# Altium footprint library pedals-potentiometers.PCBLIB: 58 footprints (part 1 of 4)
Each footprint in its own frame and in the unit in brackets; x right, y up, seen from the top. Pads: shape width x height; smd on the part's side, far side on the other; paste and mask are expansions set on the pad; w line width, h text height; cw(c..) or ccw(c..) is an arc to the next point about the centre after c.
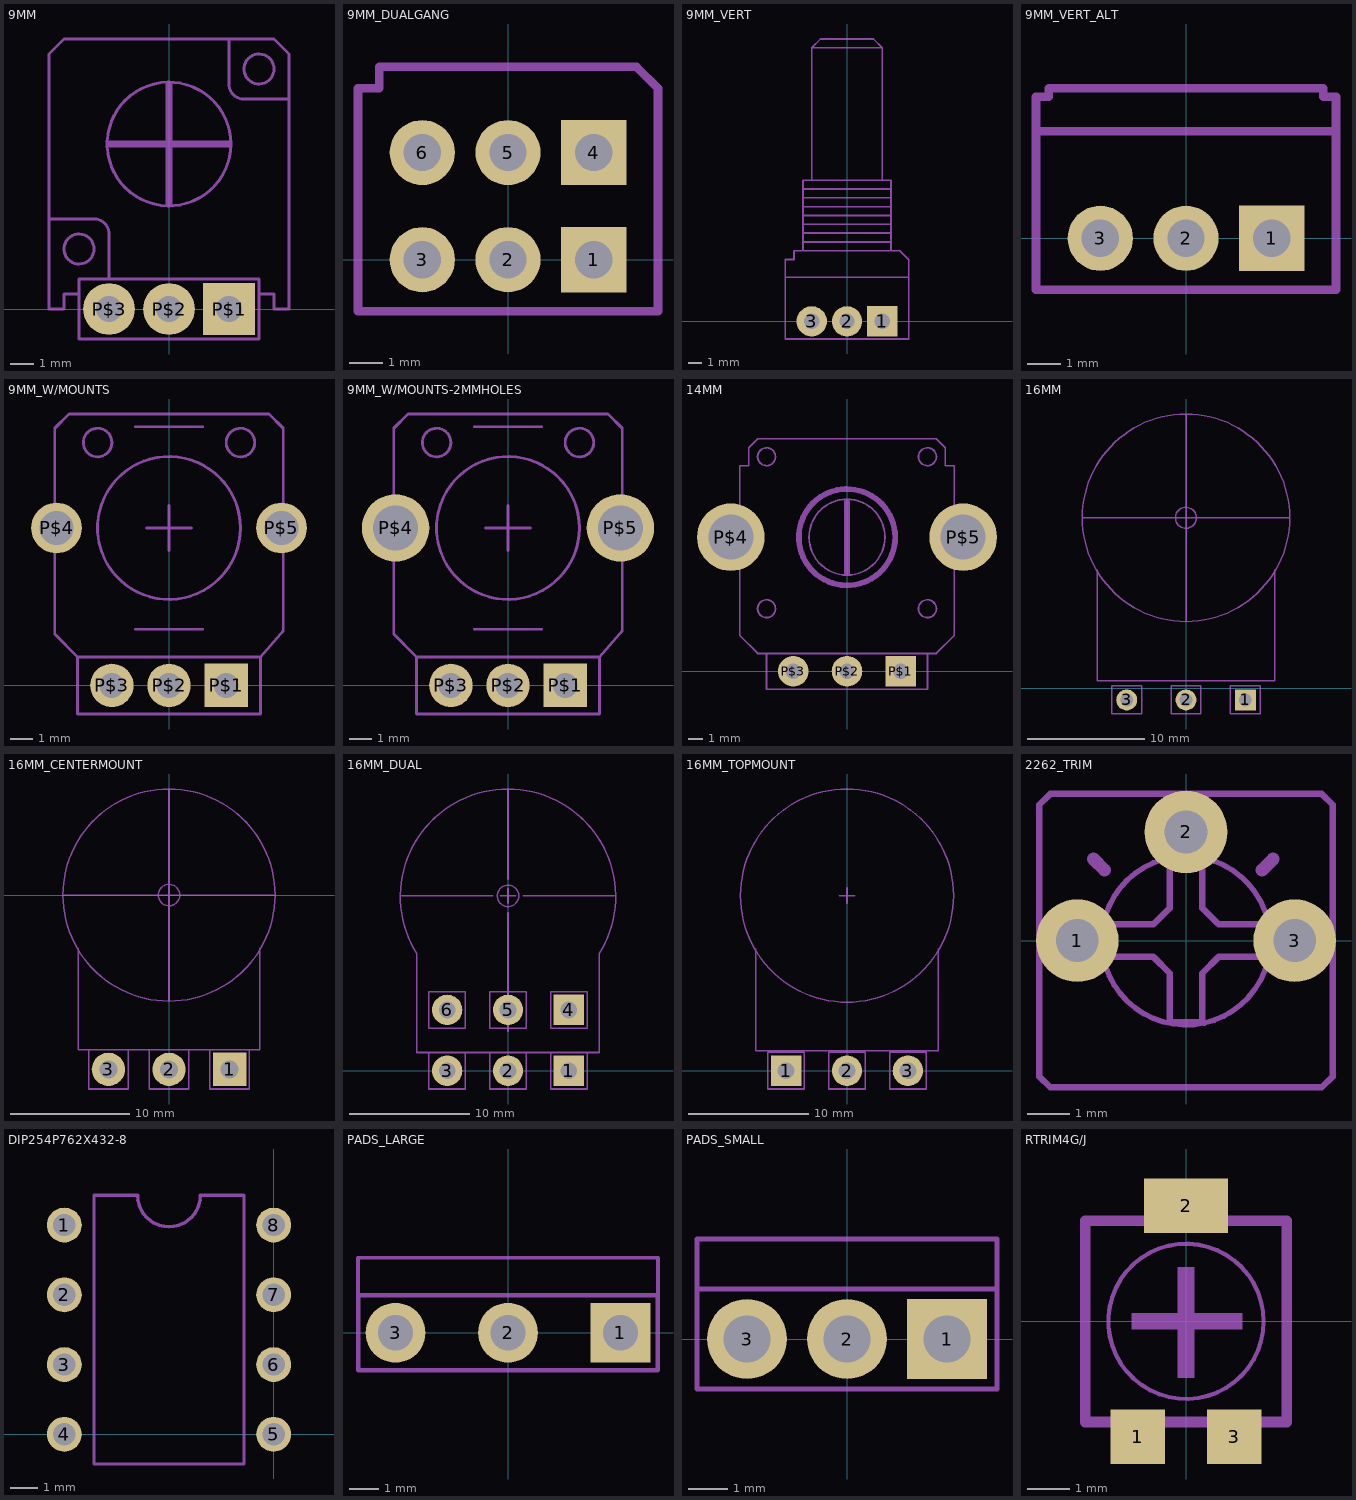
[diagram p0: the footprints below, top view; thin cyan lines are the x and y axes]

## 9MM [mil]
pads (3):
  rect 86x86 hole 43.31: P$1(100,0)
  round 86 hole 43.31: P$2(0,0) P$3(-100,0)
Mechanical 2:
  circle w5: c0,275 r103.07
  circle w5: c-150,100 r25
  circle w5: c150,400 r25
  lines w5: -200,150 -200,0 -175,0 -175,25 -150,25 ; -200,150 -200,425 -175,450 100,450 ; -200,150 -125,150 cw(c-125,125) -100,125 -100,50 ; -150,25 -150,50 -100,50 ; -150,25 -150,-50 150,-50 150,25 ; -100,50 150,50 150,25 ; 100,450 175,450 200,425 200,350 ; 100,450 100,375 ccw(c125,375) 125,350 200,350 ; 150,25 175,25 175,0 200,0 200,350
  lines w12: -100,275 100,275 ; 0,175 0,375

## 9MM_DUALGANG [mil]
pads (6):
  rect 76x76 hole 43.31: 1(100,0) 4(100,125)
  round 76 hole 43.31: 2(0,0) 3(-100,0) 5(0,125) 6(-100,125)
Mechanical 2:
  lines w10: -175,-60 175,-60 175,150 175,200 150,225 -150,225 -150,200 -175,200 -175,150 -175,-60

## 9MM_VERT [mil]
pads (3):
  rect 86x86 hole 43.31: 1(100,0)
  round 86 hole 43.31: 2(0,0) 3(-100,0)
Mechanical 2:
  lines w5: -175,125 -175,175 -150,175 -150,200 -125,200 ; -175,125 -175,-50 175,-50 175,125 ; -175,125 175,125 ; -125,200 125,200 ; -125,200 -125,225 ; -125,225 -125,250 ; -125,225 125,225 ; -125,250 -125,275 ; -125,250 125,250 ; -125,275 -125,300 ; -125,275 125,275 ; -125,300 -125,325 ; -125,300 125,300 ; -125,325 -125,350 ; -125,325 125,325 ; -125,350 -125,375 ; -125,350 125,350 ; -125,375 -125,400 -100,400 ; -125,375 125,375 ; -100,400 100,400 ; -100,400 -100,775 ; -100,775 -75,800 75,800 100,775 ; -100,775 100,775 ; 100,400 125,400 125,375 ; 100,400 100,775 ; 125,200 150,200 175,175 175,125 ; 125,200 125,225 ; 125,225 125,250 ; 125,250 125,275 ; 125,275 125,300 ; 125,300 125,325 ; 125,325 125,350 ; 125,350 125,375

## 9MM_VERT_ALT [mil]
pads (3):
  rect 76x76 hole 43.31: 1(100,0)
  round 76 hole 43.31: 2(0,0) 3(-100,0)
Mechanical 2:
  lines w10: -175,125 -175,165 -160,165 -160,175 160,175 160,165 175,165 175,125 ; -175,125 -175,-60 175,-60 175,125 ; -175,125 175,125
Mechanical 3:
  lines w10: -175,125 -175,165 -160,165 -160,175 160,175 160,165 175,165 175,125 ; -175,125 -175,-60 175,-60 175,125 ; -175,125 175,125

## 9MM_W/MOUNTS [mil]
pads (5):
  rect 76x76 hole 43.31: P$1(100,0)
  round 76 hole 43.31: P$2(0,0) P$3(-100,0)
  round 88.59 hole 59.06: P$4(-196.85,275.59) P$5(196.85,275.59)
Mechanical 2:
  lines w5: -160,-50 -160,50 160,50 160,-50 -160,-50
Mechanical 3:
  circle w5: c0,275.59 r125
  circle w5: c125,425 r25
  circle w5: c-125,425 r25
  lines w5: -59.06,98.43 59.06,98.43 ; -59.06,452.76 59.06,452.76 ; -39.37,275.59 39.37,275.59 ; 0,236.22 0,314.96 ; -160,50 -200,90 -200,450 -175,475 0,475 175,475 200,450 200,95 195,90 160,50 ; -160,50 160,50 ; -160,50 -160,-50 160,-50 160,50

## 9MM_W/MOUNTS-2MMHOLES [mm]
pads (5):
  rect 1.93x1.93 hole 1.1: P$1(2.54,0)
  round 1.93 hole 1.1: P$2(0,0) P$3(-2.54,0)
  round 3 hole 2: P$4(-5,7) P$5(5,7)
Mechanical 2:
  lines w0.127: -4.064,-1.27 -4.064,1.27 4.064,1.27 4.064,-1.27 -4.064,-1.27
Mechanical 3:
  circle w0.127: c0,7 r3.175
  circle w0.127: c3.175,10.795 r0.635
  circle w0.127: c-3.175,10.795 r0.635
  lines w0.127: -1.5,2.5 1.5,2.5 ; -1.5,11.5 1.5,11.5 ; -1,7 1,7 ; 0,6 0,8 ; -4.064,1.27 -5.08,2.286 -5.08,11.43 -4.445,12.065 0,12.065 4.445,12.065 5.08,11.43 5.08,2.413 4.953,2.286 4.064,1.27 ; -4.064,1.27 4.064,1.27 ; -4.064,1.27 -4.064,-1.27 4.064,-1.27 4.064,1.27

## 14MM [mil]
pads (5):
  rect 86x86 hole 43.31: P$1(150,0)
  round 86 hole 43.31: P$2(0,0) P$3(-150,0)
  round 188.97 hole 125.98: P$4(-325,375) P$5(325,375)
Mechanical 2:
  lines w5: -225,-50 -225,50 225,50 225,-50 -225,-50
Mechanical 3:
  circle w5: c-225,600 r25
  circle w5: c225,600 r25
  circle w5: c-225,175 r25
  circle w5: c225,175 r25
  circle w5: c0,375 r106.06
  circle w16: c0,375 r134.63
  lines w5: -300,300 -300,100 -250,50 250,50 300,100 300,300 ; -300,300 -300,450 ; -300,300 -325,300 -325,450 -300,450 ; -300,450 -300,575 -275,575 -275,625 -250,650 250,650 275,625 275,575 300,575 300,450 ; 300,300 300,450 ; 300,300 325,300 325,450 300,450
  lines w16: 0,275 0,475

## 16MM [mm]
pads (3):
  rect 1.8x1.8 hole 1.1: 1(5.08,-1)
  round 1.8 hole 1.1: 2(0,-1) 3(-5.08,-1)
Mechanical 2:
  lines w0.127: -6.35,-2.206 -6.35,0.207 -3.81,0.207 -3.81,-2.206 -6.35,-2.206 ; -1.27,-2.206 -1.27,0.207 1.27,0.207 1.27,-2.206 -1.27,-2.206 ; 3.81,-2.206 3.81,0.207 6.35,0.207 6.35,-2.206 3.81,-2.206
Mechanical 3:
  circle w0.127: c0,14.605 r0.898
  lines w0.127: -7.62,10.16 -7.62,0.651 7.62,0.651 7.62,10.16 ; -8.89,14.605 cw(c0,14.605) 0,23.495 ; -8.89,14.605 ccw(c0,14.605) 0,5.715 ; -8.89,14.605 8.89,14.605 ; 0,5.715 ccw(c0,14.605) 8.89,14.605 ; 0,5.715 0,23.495 ; 0,23.495 cw(c0,14.605) 8.89,14.605

## 16MM_CENTERMOUNT [mil]
pads (3):
  rect 110x110 hole 59.06: 1(200,-575)
  round 110 hole 59.06: 2(0,-575) 3(-200,-575)
Mechanical 2:
  lines w5: -265,-640 -265,-510 -135,-510 -135,-640 -265,-640 ; -65,-640 -65,-510 65,-510 65,-640 -65,-640 ; 135,-640 135,-510 265,-510 265,-640 135,-640
Mechanical 3:
  circle w5: c0,0 r35.35
  lines w5: -300,-175 -300,-510 300,-510 300,-175 ; -350,0 cw(c0,0) 0,350 ; -350,0 ccw(c0,0) 0,-350 ; -350,0 350,0 ; 0,-350 ccw(c0,0) 350,0 ; 0,-350 0,350 ; 0,350 cw(c0,0) 350,0

## 16MM_DUAL [mil]
pads (6):
  rect 100x100 hole 55.12: 1(200,0) 4(200,200)
  round 100 hole 55.12: 2(0,0) 3(-200,0) 5(0,200) 6(-200,200)
Mechanical 2:
  lines w5: -60,60 -60,-60 60,-60 60,60 -55,60 ; -260,-60 -140,-60 -140,60 -260,60 -260,-60 ; -260,140 -140,140 -140,260 -260,260 -260,140 ; -60,140 60,140 60,260 -60,260 -60,140 ; 140,-60 260,-60 260,60 140,60 140,-60 ; 140,140 260,140 260,260 140,260 140,140
Mechanical 3:
  circle w5: c0,575 r35.35
  lines w5: -350,575 -50,575 ; -25,575 25,575 ; 0,130 0,520 ; 0,550 0,600 ; 0,630 0,925 ; 50,575 350,575 ; -300,60 -300,385 cw(c0,572.5) 300,385 300,60 -290,60 -300,60

## 16MM_TOPMOUNT [mil]
pads (3):
  rect 100x100 hole 55.12: 1(-200,0)
  round 100 hole 55.12: 2(0,0) 3(200,0)
Mechanical 2:
  lines w5: -260,-60 -260,60 -140,60 -140,-60 -260,-60 ; -60,-60 -60,60 60,60 60,-60 -60,-60 ; 140,-60 140,60 260,60 260,-60 140,-60
Mechanical 3:
  lines w5: -300,400 -300,65 300,65 300,400 ; -25,575 25,575 ; 0,550 0,600 ; -350,575 cw(c0,575) 0,925 cw(c0,575) 350,575 cw(c0,575) 0,225 cw(c0,575) -350,575

## 2262_TRIM [mil]
pads (3):
  round 76 hole 39.37: 1(-100,0) 2(0,100) 3(100,0)
Mechanical 2:
  circle w5: c0,0 r77.62
  lines w6: -135,-125 -125,-135 125,-135 135,-125 135,125 125,135 -125,135 -135,125 -135,-125 ; -75,-15 -75,15 -30,15 -15,30 -15,75 15,75 15,30 30,15 75,15 75,-15 30,-15 15,-30 15,-75 -15,-75 -15,-30 -30,-15 -75,-15
  lines w12: -85,75 -75,65 ; 70,65 80,75

## DIP254P762X432-8 [mil]
pads (8):
  round 50 hole 32: 1(-300,300) 2(-300,200) 3(-300,100) 4(-300,0) 5(0,0) 6(0,100) 7(0,200) 8(0,300)
Mechanical 2:
  lines w5: -257.5,-42.5 -42.5,-42.5 -42.5,342.5 -105,342.5 cw(c-150,342.5) -195,342.5 -257.5,342.5 -257.5,-42.5

## PADS_LARGE [mil]
pads (3):
  rect 80x80 hole 47.24: 1(150,0)
  round 80 hole 47.24: 2(0,0) 3(-150,0)
Mechanical 2:
  lines w5: -200,50 -200,100 200,100 200,50
  lines w6: -200,-50 200,-50 200,50 -200,50 -200,-50

## PADS_SMALL [mil]
pads (3):
  rect 80x80 hole 47.24: 1(100,0)
  round 80 hole 47.24: 2(0,0) 3(-100,0)
Mechanical 2:
  lines w5: -150,50 -150,100 150,100 150,50 ; -150,50 -150,-50 150,-50 150,50 ; -150,50 150,50

## RTRIM4G/J [mm]
pads (3):
  rect 1.3x1.3 smd: 1(-1.15,-2.75) 3(1.15,-2.75)
  rect 2x1.3 smd: 2(0,2.75)
Mechanical 2:
  circle w0.102: c0,0 r1.85
  rectangle: -1.3,-0.2 1.35,0.2
  rectangle: -0.2,-1.35 0.2,1.3
  lines w0.254: -2.1,-2.4 -2.4,-2.4 -2.4,2.4 -1.25,2.4 ; -0.25,-2.4 0.25,-2.4 ; 1.25,2.4 2.4,2.4 2.4,-2.4 2,-2.4
Mechanical 18:
  lines w0.254: -2.4,-2.4 -2.4,2.4 2.4,2.4 2.4,-2.4 -2.4,-2.4